# EAGLE library part ACS37002 (library CurrentProbe)
Allegro ACS37002 current sensor.
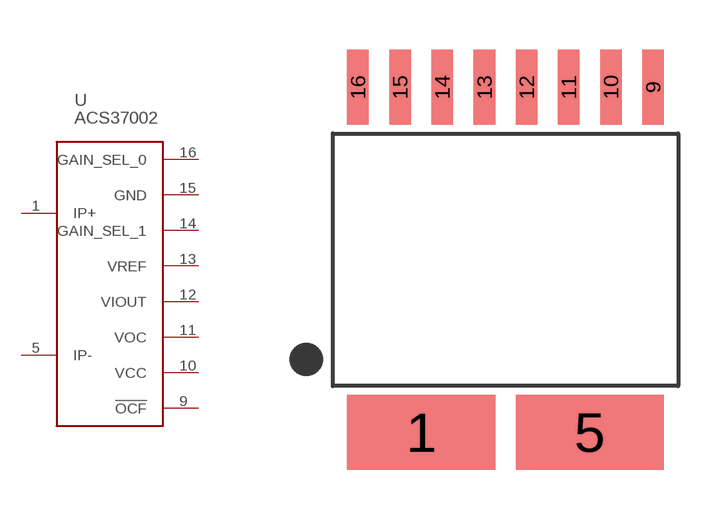
[diagram p2: symbol with the pads of ALLEGRO_SOIC16; footprint ALLEGRO_SOIC16]

Designator prefix U

## ACS37002LLAATR-015B5  [ALLEGRO_SOIC16]
1  IP+  pas
5  IP-  pas
9  !OCF!  oc
10  VCC  pwr
11  VOC  in
12  VIOUT  out
13  VREF  out
14  GAIN_SEL_1  in
15  GND  pwr
16  GAIN_SEL_0  in

## Footprint ALLEGRO_SOIC16 (pad centres in mm)
Allegro ACS37002 current sensor.
smd 4.46 x 2.25: 1 -2.54,-5.2; 5 2.54,-5.2
smd 0.65 x 2.25: 9 4.445,5.2; 10 3.175,5.2; 11 1.905,5.2; 12 0.635,5.2; 13 -0.635,5.2; 14 -1.905,5.2; 15 -3.175,5.2; 16 -4.445,5.2